# EAGLE library part LTC2954CTS8-2 (library LTC2954CTS8-2)
Check prices <https://pricing.snapeda.com/parts/LTC2954CTS8-2/Analog%20Devices%20/%20Linear%20Technology/view-part?ref=eda>
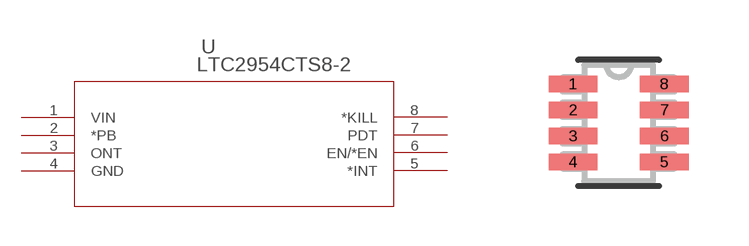
[diagram p0: symbol with the pads of TSOT-23_TS8; footprint TSOT-23_TS8]

Designator prefix U

## LTC2954CTS8-2 (Availability: Bad; Description: Power Supply Controller Push Button, On/Off Controller TSOT-23-8; MF: Analog Devices / Linear Technology; MP: LTC2954CTS8-2; Package: None; Price: None)  [TSOT-23_TS8]
1  VIN  in
2  *PB  in
3  ONT  in
4  GND  pwr
5  *INT  out
6  EN/*EN  out
7  PDT  in
8  *KILL  in

## Footprint TSOT-23_TS8 (pad centres in mm)
smd 1.219 x 0.406: 1 -1.143,0.975; 2 -1.143,0.325; 3 -1.143,-0.325; 4 -1.143,-0.975; 5 1.143,-0.975; 6 1.143,-0.325; 7 1.143,0.325; 8 1.143,0.975